# Altium schematic symbol library MOTION_BOARD_Library.SchLib: 108 symbols
Pins are listed as number, name and electrical type; pins without a type are passive.

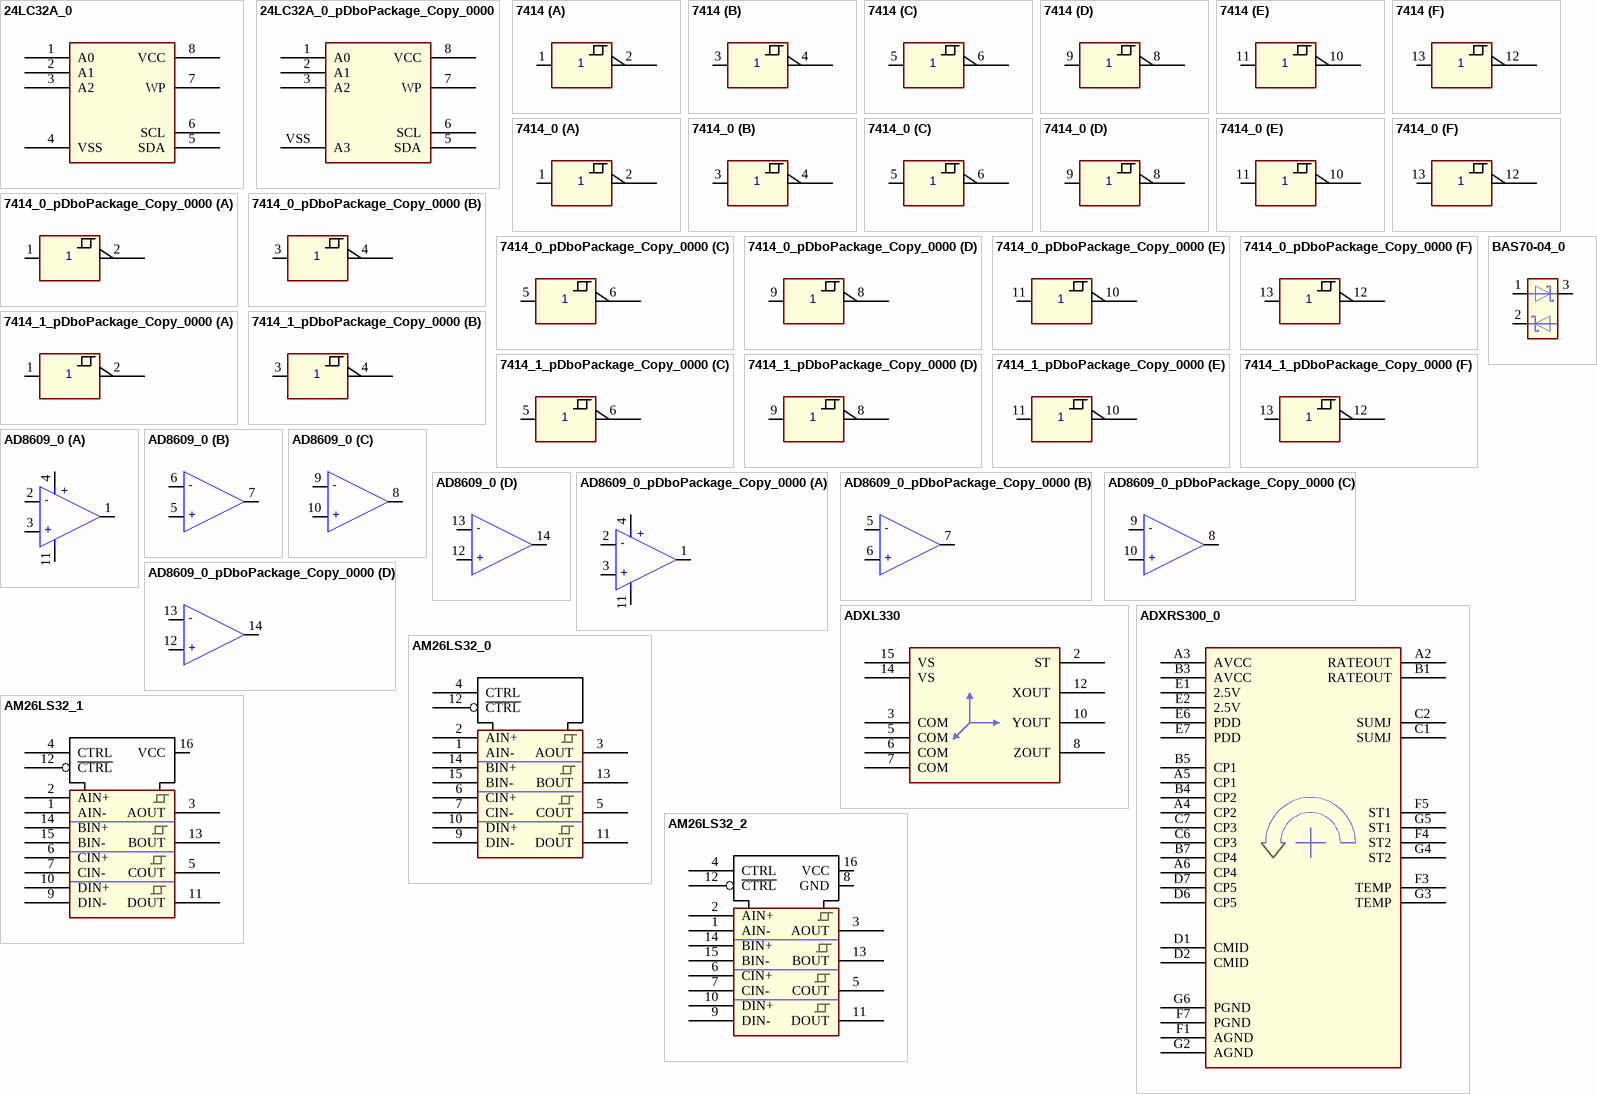
[diagram p0: symbols 24LC32A_0 to BAS70-04_0]

## 24LC32A_0
designator IC?
pins: 1 A0, 2 A1, 3 A2, 4 VSS, 5 SDA, 6 SCL, 7 WP, 8 VCC

## 24LC32A_0_pDboPackage_Copy_0000
designator IC?
pins: 1 A0, 2 A1, 3 A2, 5 SDA, 6 SCL, 7 WP, 8 VCC, VSS A3

## 7414
designator IC?
part A pins: 1 6A, 2 6Y, 7 GND (power) hidden to GND, 14 VCC (power) hidden to VCC
part B pins: 3 6A, 4 6Y, 7 GND (power) hidden to GND, 14 VCC (power) hidden to VCC
part C pins: 5 6A, 6 6Y, 7 GND (power) hidden to GND, 14 VCC (power) hidden to VCC
part D pins: 7 GND (power) hidden to GND, 8 6Y, 9 6A, 14 VCC (power) hidden to VCC
part E pins: 7 GND (power) hidden to GND, 10 6Y, 11 6A, 14 VCC (power) hidden to VCC
part F pins: 7 GND (power) hidden to GND, 12 6Y, 13 6A, 14 VCC (power) hidden to VCC

## 7414_0
designator IC?
part A pins: 1 6A, 2 6Y, 7 GND (power) hidden to GND, 14 VCC (power) hidden to VCC
part B pins: 3 6A, 4 6Y, 7 GND (power) hidden to GND, 14 VCC (power) hidden to VCC
part C pins: 5 6A, 6 6Y, 7 GND (power) hidden to GND, 14 VCC (power) hidden to VCC
part D pins: 7 GND (power) hidden to GND, 8 6Y, 9 6A, 14 VCC (power) hidden to VCC
part E pins: 7 GND (power) hidden to GND, 10 6Y, 11 6A, 14 VCC (power) hidden to VCC
part F pins: 7 GND (power) hidden to GND, 12 6Y, 13 6A, 14 VCC (power) hidden to VCC

## 7414_0_pDboPackage_Copy_0000
designator IC?
part A pins: 1 6A, 2 6Y, 7 GND (power) hidden to GND, 14 VCC (power) hidden to VCC
part B pins: 3 6A, 4 6Y, 7 GND (power) hidden to GND, 14 VCC (power) hidden to VCC
part C pins: 5 6A, 6 6Y, 7 GND (power) hidden to GND, 14 VCC (power) hidden to VCC
part D pins: 7 GND (power) hidden to GND, 8 6Y, 9 6A, 14 VCC (power) hidden to VCC
part E pins: 7 GND (power) hidden to GND, 10 6Y, 11 6A, 14 VCC (power) hidden to VCC
part F pins: 7 GND (power) hidden to GND, 12 6Y, 13 6A, 14 VCC (power) hidden to VCC

## 7414_1_pDboPackage_Copy_0000
designator IC?
part A pins: 1 6A, 2 6Y, 7 GND (power) hidden to GND, 14 VCC (power) hidden to VCC
part B pins: 3 6A, 4 6Y, 7 GND (power) hidden to GND, 14 VCC (power) hidden to VCC
part C pins: 5 6A, 6 6Y, 7 GND (power) hidden to GND, 14 VCC (power) hidden to VCC
part D pins: 7 GND (power) hidden to GND, 8 6Y, 9 6A, 14 VCC (power) hidden to VCC
part E pins: 7 GND (power) hidden to GND, 10 6Y, 11 6A, 14 VCC (power) hidden to VCC
part F pins: 7 GND (power) hidden to GND, 12 6Y, 13 6A, 14 VCC (power) hidden to VCC

## AD8609_0
designator IC?
part A pins: 1 OUT A, 2 -IN A, 3 +IN A, 4 V+, 11 V-
part B pins: 5 +IN B, 6 -IN B, 7 OUT B
part C pins: 8 OUT C, 9 -IN C, 10 +IN C
part D pins: 12 +IN D, 13 -IN D, 14 OUT D
part A text: +; -
part B text: -; +
part C text: -; +
part D text: -; +

## AD8609_0_pDboPackage_Copy_0000
designator IC?
part A pins: 1 OUT A, 2 -IN A, 3 +IN A, 4 V+, 11 V-
part B pins: 5 -IN B, 6 +IN B, 7 OUT B
part C pins: 8 OUT C, 9 -IN C, 10 +IN C
part D pins: 12 +IN D, 13 -IN D, 14 OUT D
part A text: +; -
part B text: -; +
part C text: -; +
part D text: -; +

## ADXL330
designator IC?
pins: 2 ST, 3 COM, 5 COM, 6 COM, 7 COM, 8 ZOUT, 10 YOUT, 12 XOUT, 14 VS, 15 VS

## ADXRS300_0
designator IC?
pins: A2 RATEOUT, A3 AVCC, A4 CP2, A5 CP1, A6 CP4, B1 RATEOUT, B3 AVCC, B4 CP2, B5 CP1, B7 CP4, C1 SUMJ, C2 SUMJ, C6 CP3, C7 CP3, D1 CMID, D2 CMID, D6 CP5, D7 CP5, E1 2.5V, E2 2.5V, E6 PDD, E7 PDD, F1 AGND, F3 TEMP, F4 ST2, F5 ST1, F7 PGND, G2 AGND, G3 TEMP, G4 ST2, G5 ST1, G6 PGND

## AM26LS32_0
designator IC?
pins: 1 AIN-, 2 AIN+, 3 AOUT, 4 CTRL, 5 COUT, 6 CIN+, 7 CIN-, 8 GND (power) hidden to GND, 9 DIN-, 10 DIN+, 11 DOUT, 12 ~{CTRL}, 13 BOUT, 14 BIN+, 15 BIN-

## AM26LS32_1
designator IC?
pins: 1 AIN-, 2 AIN+, 3 AOUT, 4 CTRL, 5 COUT, 6 CIN+, 7 CIN-, 8 GND (power) hidden to GND, 9 DIN-, 10 DIN+, 11 DOUT, 12 ~{CTRL}, 13 BOUT, 14 BIN+, 15 BIN-, 16 VCC

## AM26LS32_2
designator IC?
pins: 1 AIN-, 2 AIN+, 3 AOUT, 4 CTRL, 5 COUT, 6 CIN+, 7 CIN-, 8 GND (power), 9 DIN-, 10 DIN+, 11 DOUT, 12 ~{CTRL}, 13 BOUT, 14 BIN+, 15 BIN-, 16 VCC

## BAS70-04_0
designator D?
pins: 1 a, 2 k, 3 k

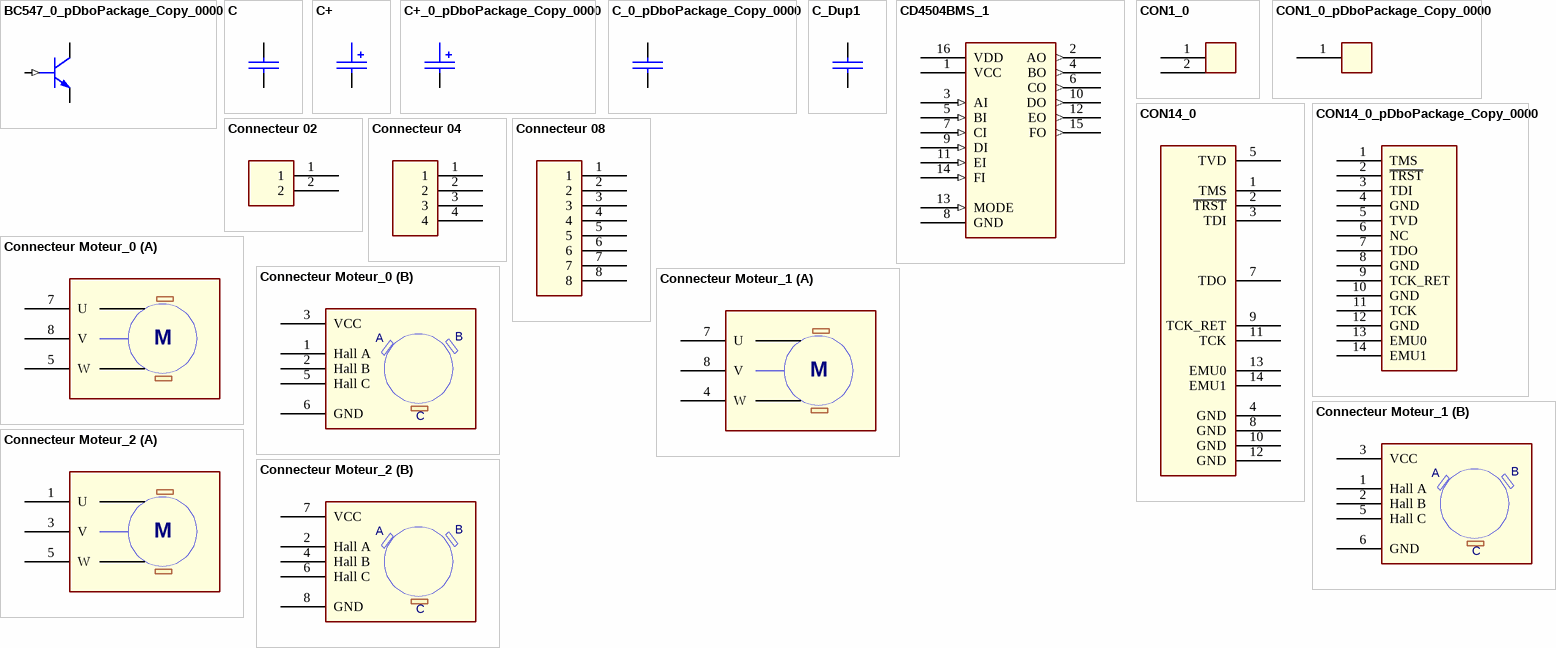
[diagram p1: symbols BC547_0_pDboPackage_Copy_0000 to Connecteur Moteur_2]

## BC547_0_pDboPackage_Copy_0000
designator Q?
pins: 1 COLLECTOR, 2 BASE (in), 3 EMITTER

## C
designator C?
footprint SM/C_0805
pins: 1, 2

## C+
designator C?
footprint SM/C_0805
pins: 1, 2

## C+_0_pDboPackage_Copy_0000
designator C?
footprint SM/C_0805
pins: 1, 2

## C_0_pDboPackage_Copy_0000
designator C?
footprint SM/C_0805
pins: 1, 2

## C_Dup1
designator C?
footprint SM/C_0805
pins: 1, 2

## CD4504BMS_1
designator U?
pins: 1 VCC (power), 2 AO (out), 3 AI (in), 4 BO (out), 5 BI (in), 6 CO (out), 7 CI (in), 8 GND (power), 9 DI (in), 10 DO (out), 11 EI (in), 12 EO (out), 13 MODE (in), 14 FI (in), 15 FO (out), 16 VDD (power)

## CON1_0
designator J?
pins: 1, 2

## CON1_0_pDboPackage_Copy_0000
designator J?
pins: 1

## CON14_0
designator J?
pins: 1 TMS, 2 ~{TRST}, 3 TDI, 4 GND, 5 TVD, 7 TDO, 8 GND, 9 TCK_RET, 10 GND, 11 TCK, 12 GND, 13 EMU0, 14 EMU1

## CON14_0_pDboPackage_Copy_0000
designator J?
pins: 1 TMS, 2 ~{TRST}, 3 TDI, 4 GND, 5 TVD, 6 NC, 7 TDO, 8 GND, 9 TCK_RET, 10 GND, 11 TCK, 12 GND, 13 EMU0, 14 EMU1

## Connecteur 02
designator X?
pins: 1, 2

## Connecteur 04
designator X?
pins: 1, 2, 3, 4

## Connecteur 08
designator X?
pins: 1, 2, 3, 4, 5, 6, 7, 8

## Connecteur Moteur_0
designator X?
footprint Molex8
part A pins: 5 W, 7 U, 8 V
part B pins: 1 Hall A, 2 Hall B, 3 VCC, 5 Hall C, 6 GND
part A text: M
part B text: A; B; C

## Connecteur Moteur_1
designator X?
footprint Molex8
part A pins: 4 W, 7 U, 8 V
part B pins: 1 Hall A, 2 Hall B, 3 VCC, 5 Hall C, 6 GND
part A text: M
part B text: A; B; C

## Connecteur Moteur_2
designator X?
footprint Molex8
part A pins: 1 U, 3 V, 5 W
part B pins: 2 Hall A, 4 Hall B, 6 Hall C, 7 VCC, 8 GND
part A text: M
part B text: A; B; C

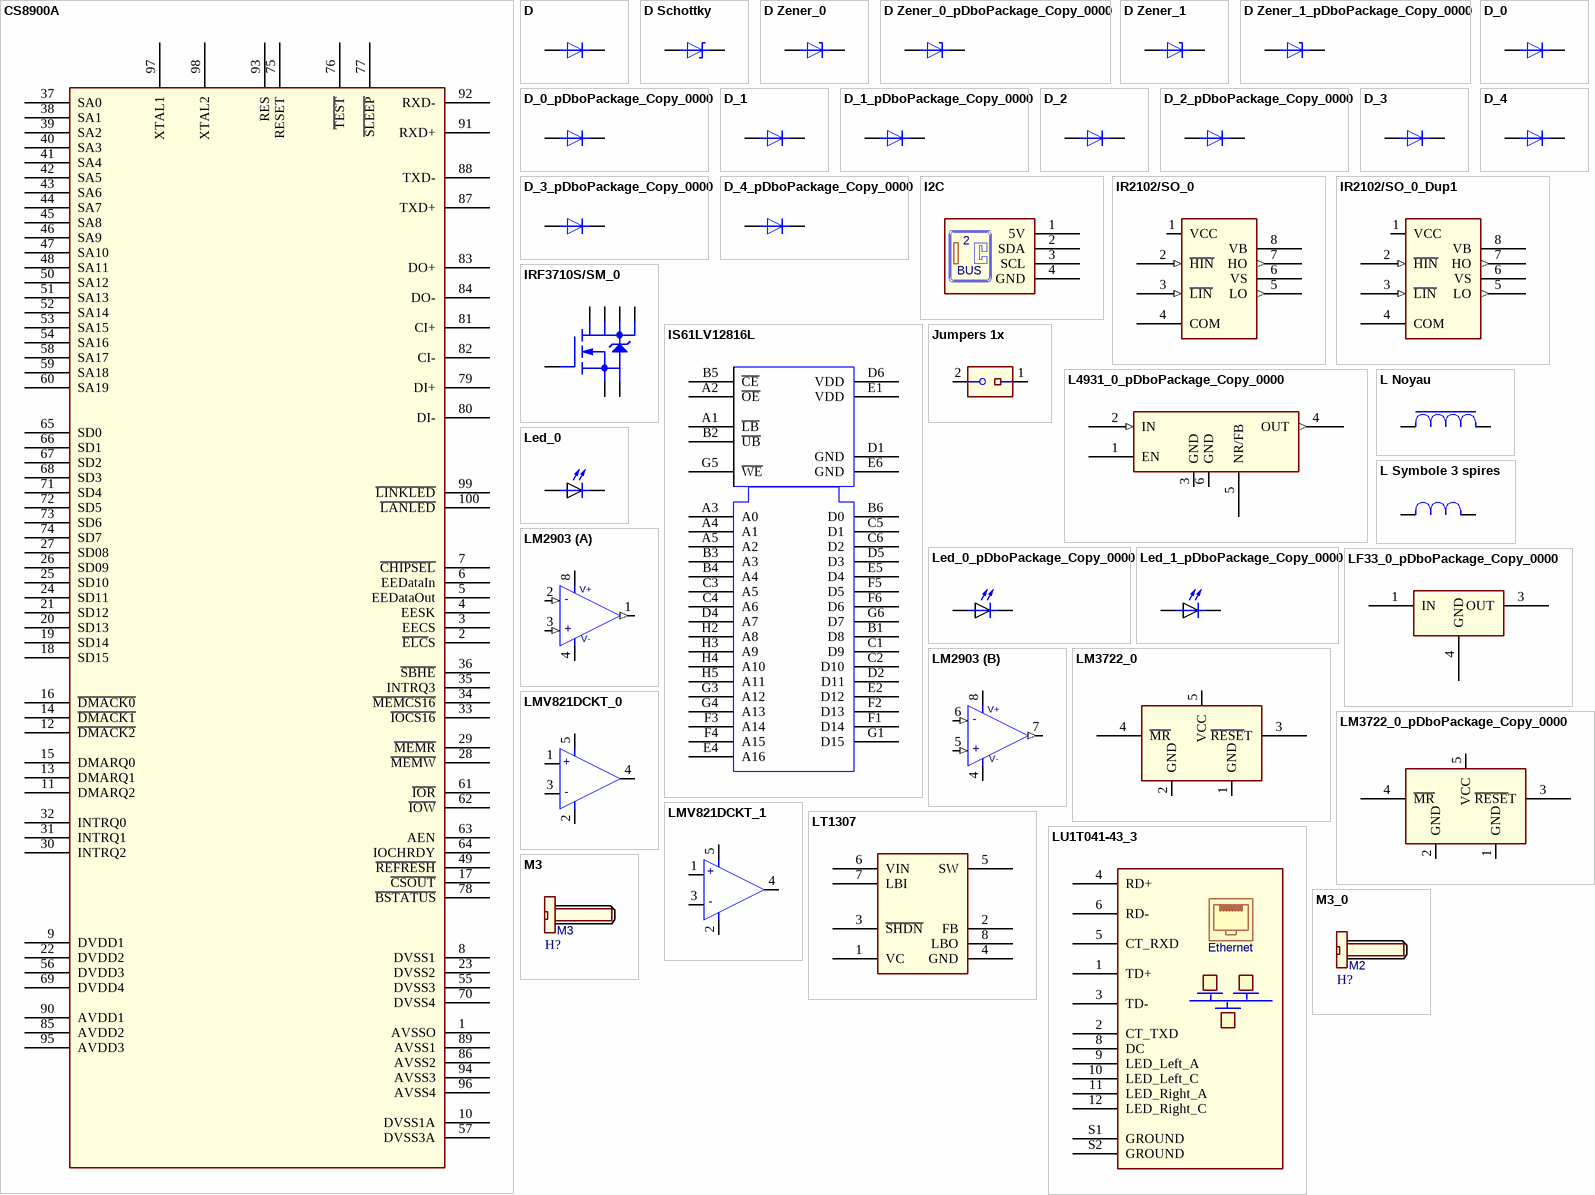
[diagram p2: symbols CS8900A to M3_0]

## CS8900A
designator IC?
pins: 1 AVSSO, 2 ~{ELC}S, 3 EECS, 4 EESK, 5 EEDataOut, 6 EEDataIn, 7 ~{CHIPSEL}, 8 DVSS1, 9 DVDD1, 10 DVSS1A, 11 DMARQ2, 12 ~{DMACK2}, 13 DMARQ1, 14 ~{DMACK1}, 15 DMARQ0, 16 ~{DMACK0}, 17 ~{CSOUT}, 18 SD15, 19 SD14, 20 SD13, 21 SD12, 22 DVDD2, 23 DVSS2, 24 SD11, 25 SD10, 26 SD09, 27 SD08, 28 ~{MEMW}, 29 ~{MEMR}, 30 INTRQ2, 31 INTRQ1, 32 INTRQ0, 33 ~{IOCS16}, 34 ~{MEMCS16}, 35 INTRQ3, 36 ~{SBHE}, 37 SA0, 38 SA1, 39 SA2, 40 SA3, 41 SA4, 42 SA5, 43 SA6, 44 SA7, 45 SA8, 46 SA9, 47 SA10, 48 SA11, 49 ~{REFRESH}, 50 SA12, 51 SA13, 52 SA14, 53 SA15, 54 SA16, 55 DVSS3, 56 DVDD3, 57 DVSS3A, 58 SA17, 59 SA18, 60 SA19, 61 ~{IOR}, 62 ~{IOW}, 63 AEN, 64 IOCHRDY, 65 SD0, 66 SD1, 67 SD2, 68 SD3, 69 DVDD4, 70 DVSS4, 71 SD4, 72 SD5, 73 SD6, 74 SD7, 75 RESET, 76 ~{TEST}, 77 ~{SLEEP}, 78 ~{BSTATUS}, 79 DI+, 80 DI-, 81 CI+, 82 CI-, 83 DO+, 84 DO-, 85 AVDD2, 86 AVSS2, 87 TXD+, 88 TXD-, 89 AVSS1, 90 AVDD1, 91 RXD+, 92 RXD-, 93 RES, 94 AVSS3, 95 AVDD3, 96 AVSS4, 97 XTAL1, 98 XTAL2, 99 ~{LINKLED}, 100 ~{LANLED}

## D
designator D?
pins: 1 a, 2 k

## D Schottky
designator D?
pins: 1 a, 2 k

## D Zener_0
designator D?
pins: 1, 2

## D Zener_0_pDboPackage_Copy_0000
designator D?
pins: 1 a, 2 k

## D Zener_1
designator D?
pins: 1 a, 3 k

## D Zener_1_pDboPackage_Copy_0000
designator D?
pins: 1 a, 2 k

## D_0
designator D?
pins: 1 a, 3 k

## D_0_pDboPackage_Copy_0000
designator D?
pins: 1 a, 2 k

## D_1
designator D?
pins: 1 a, 3 k

## D_1_pDboPackage_Copy_0000
designator D?
pins: 1 a, 2 k

## D_2
designator D?
pins: 1 a, 3 k

## D_2_pDboPackage_Copy_0000
designator D?
pins: 1 a, 2 k

## D_3
designator D?
pins: 1 a, 3 k

## D_3_pDboPackage_Copy_0000
designator D?
pins: 1 a, 3 k

## D_4
designator D?
pins: 1 a, 3 k

## D_4_pDboPackage_Copy_0000
designator D?
pins: 1 a, 3 k

## I2C
designator X?
pins: 1 5V, 2 SDA, 3 SCL, 4 GND
text: BUS

## IR2102/SO_0
designator IC?
pins: 1 VCC (power), 2 ~{HIN} (in), 3 ~{LIN} (in), 4 COM (power), 5 LO (out), 6 VS, 7 HO (out), 8 VB (power)

## IR2102/SO_0_Dup1
designator U?
pins: 1 VCC (power), 2 ~{HIN} (in), 3 ~{LIN} (in), 4 COM (power), 5 LO (out), 6 VS, 7 HO (out), 8 VB (power)

## IRF3710S/SM_0
designator Q?
pins: D1 D, D2 D, D3 D, D4 D, G, S1 S, S2 S

## IS61LV12816L
designator IC?
pins: A1 ~{LB}, A2 ~{OE}, A3 A0, A4 A1, A5 A2, B1 D8, B2 ~{UB}, B3 A3, B4 A4, B5 ~{CE}, B6 D0, C1 D9, C2 D10, C3 A5, C4 A6, C5 D1, C6 D2, D1 GND, D2 D11, D4 A7, D5 D3, D6 VDD, E1 VDD, E2 D12, E4 A16, E5 D4, E6 GND, F1 D14, F2 D13, F3 A14, F4 A15, F5 D5, F6 D6, G1 D15, G3 A12, G4 A13, G5 ~{WE}, G6 D7, H2 A8, H3 A9, H4 A10, H5 A11

## Jumpers 1x
designator JP?
footprint JP2
pins: 1, 2

## L4931_0_pDboPackage_Copy_0000
designator U?
pins: 1 EN, 2 IN (in), 3 GND (power), 4 OUT (out), 5 NR/FB, 6 GND (power)

## L Noyau
designator L?
pins: 1, 2

## L Symbole 3 spires
designator L?
pins: 1, 2

## Led_0
designator D?
footprint LED 5
pins: 1, 2

## Led_0_pDboPackage_Copy_0000
designator D?
footprint LED 5
pins: 1, 2

## Led_1_pDboPackage_Copy_0000
designator D?
footprint LED 5
pins: 1, 2

## LF33_0_pDboPackage_Copy_0000
designator IC?
pins: 1 IN, 3 OUT, 4 GND

## LM2903
designator IC?
part A pins: 1 out (out), 2 IN- (in), 3 IN+ (in), 4 GND (power), 8 VCC (power)
part B pins: 4 GND (power), 5 IN+ (in), 6 IN- (in), 7 out (out), 8 VCC (power)
part A text: V+; -; +; V-
part B text: V+; -; +; V-

## LM3722_0
designator IC?
pins: 1 GND, 2 GND, 3 ~{RESE}T, 4 ~{MR}, 5 VCC (power)

## LM3722_0_pDboPackage_Copy_0000
designator IC?
pins: 1 GND (power), 2 GND (power), 3 ~{RESE}T, 4 ~{MR}, 5 VCC (power)

## LMV821DCKT_0
designator IC?
pins: 1 IN+, 2 GND, 3 IN-, 4 out, 5 VCC
text: +; -

## LMV821DCKT_1
designator IC?
pins: 1 IN+, 2 GND, 3 IN-, 4 out, 5 VCC
text: +; -

## LT1307
designator IC?
pins: 1 VC, 2 FB, 3 ~{SHDN}, 4 GND, 5 SW, 6 VIN, 7 LBI, 8 LBO

## LU1T041-43_3
designator M?
pins: 1 TD+, 2 CT_TXD, 3 TD-, 4 RD+, 5 CT_RXD, 6 RD-, 8 DC, 9 LED_Left_A, 10 LED_Left_C, 11 LED_Right_A, 12 LED_Right_C, S1 GROUND, S2 GROUND
text: Ethernet

## M3
designator H?  (value not drawn)
footprint M3
pins: 1 EARTH

## M3_0
designator H?  (value not drawn)
footprint M3
pins: 1 EARTH
text: M2

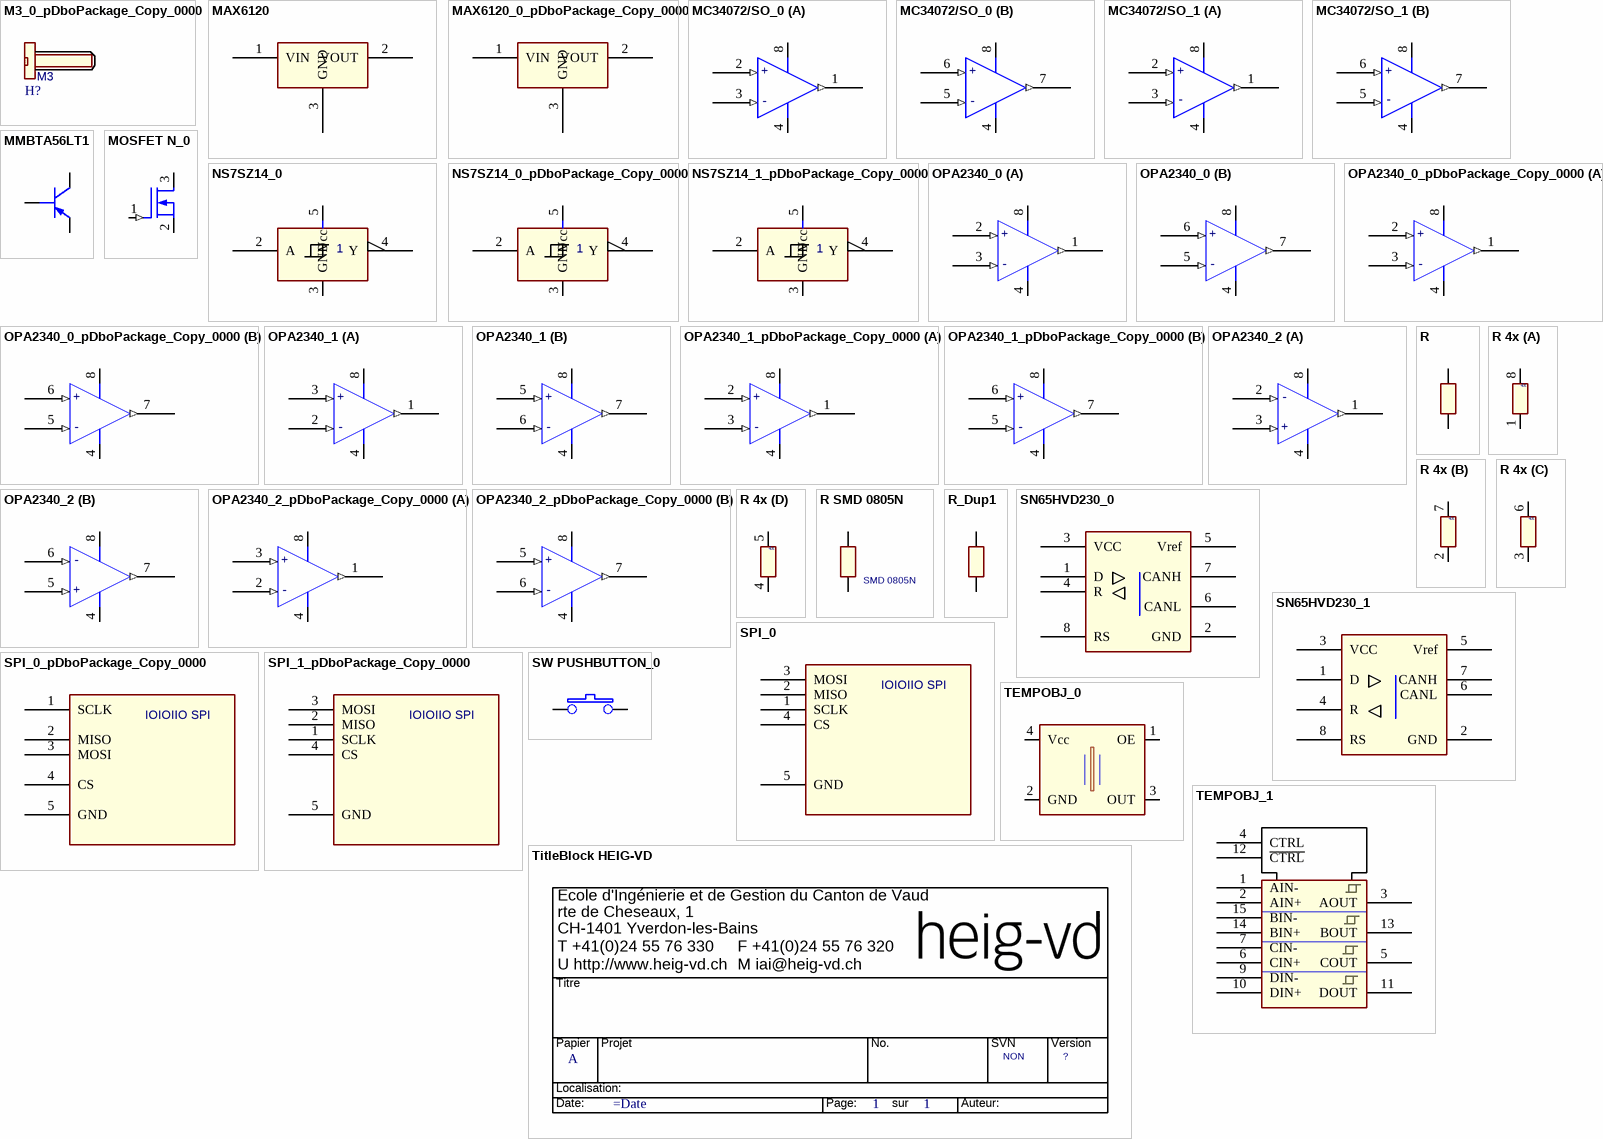
[diagram p3: symbols M3_0_pDboPackage_Copy_0000 to TitleBlock HEIG-VD]

## M3_0_pDboPackage_Copy_0000
designator H?  (value not drawn)
footprint M3
text: M3

## MAX6120
designator IC?
footprint SOT23_123
pins: 1 VIN, 2 VOUT, 3 GND

## MAX6120_0_pDboPackage_Copy_0000
designator IC?
footprint SOT23_123
pins: 1 VIN, 2 VOUT, 3 GND

## MC34072/SO_0
designator U?
part A pins: 1 OUT (out), 2 -IN (in), 3 +IN (in), 4 GND (power), 8 VCC (power)
part B pins: 4 GND (power), 5 +IN (in), 6 -IN (in), 7 OUT (out), 8 VCC (power)
part A text: +; -
part B text: +; -

## MC34072/SO_1
designator U?
part A pins: 1 OUT (out), 2 -IN (in), 3 +IN (in), 4 GND (power), 8 VCC (power)
part B pins: 4 GND (power), 5 +IN (in), 6 -IN (in), 7 OUT (out), 8 VCC (power)
part A text: +; -
part B text: +; -

## MMBTA56LT1
designator T?
pins: 1 B, 2 E, 3 C

## MOSFET N_0
designator Q?
pins: 1 GATE (in), 2 SOURCE, 3 DRAIN

## NS7SZ14_0
designator IC?
footprint SOT-23-5
pins: 2 A, 3 GND, 4 Y, 5 Vcc (power)
text: 1

## NS7SZ14_0_pDboPackage_Copy_0000
designator IC?
footprint SOT-23-5
pins: 2 A, 3 GND (power), 4 Y, 5 Vcc (power)
text: 1

## NS7SZ14_1_pDboPackage_Copy_0000
designator IC?
footprint SOT-23-5
pins: 2 A, 3 GND, 4 Y, 5 Vcc (power)
text: 1

## OPA2340_0
designator U?
part A pins: 1 OUT (out), 2 -IN (in), 3 +IN (in), 4 -VCC (power), 8 +VCC (power)
part B pins: 4 -VCC (power), 5 +IN (in), 6 -IN (in), 7 OUT (out), 8 +VCC (power)
part A text: +; -
part B text: +; -

## OPA2340_0_pDboPackage_Copy_0000
designator U?
part A pins: 1 OUT (out), 2 -IN (in), 3 +IN (in), 4 -VCC (power), 8 +VCC (power)
part B pins: 4 -VCC (power), 5 +IN (in), 6 -IN (in), 7 OUT (out), 8 +VCC (power)
part A text: +; -
part B text: +; -

## OPA2340_1
designator U?
part A pins: 1 OUT (out), 2 -IN (in), 3 +IN (in), 4 -VCC (power), 8 +VCC (power)
part B pins: 4 -VCC (power), 5 +IN (in), 6 -IN (in), 7 OUT (out), 8 +VCC (power)
part A text: +; -
part B text: +; -

## OPA2340_1_pDboPackage_Copy_0000
designator U?
part A pins: 1 OUT (out), 2 -IN (in), 3 +IN (in), 4 -VCC (power), 8 +VCC (power)
part B pins: 4 -VCC (power), 5 +IN (in), 6 -IN (in), 7 OUT (out), 8 +VCC (power)
part A text: +; -
part B text: +; -

## OPA2340_2
designator U?
part A pins: 1 OUT (out), 2 -IN (in), 3 +IN (in), 4 -VCC (power), 8 +VCC (power)
part B pins: 4 -VCC (power), 5 +IN (in), 6 -IN (in), 7 OUT (out), 8 +VCC (power)
part A text: -; +
part B text: -; +

## OPA2340_2_pDboPackage_Copy_0000
designator U?
part A pins: 1 OUT (out), 2 -IN (in), 3 +IN (in), 4 -VCC (power), 8 +VCC (power)
part B pins: 4 -VCC (power), 5 +IN (in), 6 -IN (in), 7 OUT (out), 8 +VCC (power)
part A text: +; -
part B text: +; -

## R
designator R?
footprint R400
pins: 1, 2

## R 4x
designator R?
part A pins: 1 A, 8 B
part B pins: 2 A, 7 B
part C pins: 3 A, 6 B
part D pins: 4 A, 5 B
part A text: 4x
part B text: 4x
part C text: 4x
part D text: 4x

## R SMD 0805N
designator R?  Package: SMD 0805N
footprint SM/R_0805
pins: 1, 2

## R_Dup1
designator R?
footprint R400
pins: 1, 2

## SN65HVD230_0
designator IC?
pins: 1 D, 2 GND, 3 VCC, 4 R, 5 Vref, 6 CANL, 7 CANH, 8 RS

## SN65HVD230_1
designator IC?
pins: 1 D, 2 GND, 3 VCC, 4 R, 5 Vref, 6 CANL, 7 CANH, 8 RS

## SPI_0
designator M?
pins: 1 SCLK, 2 MISO, 3 MOSI, 4 CS, 5 GND
text: IOIOIIO SPI

## SPI_0_pDboPackage_Copy_0000
designator M?
pins: 1 SCLK, 2 MISO, 3 MOSI, 4 CS, 5 GND
text: IOIOIIO SPI

## SPI_1_pDboPackage_Copy_0000
designator M?
pins: 1 SCLK, 2 MISO, 3 MOSI, 4 CS, 5 GND
text: IOIOIIO SPI

## SW PUSHBUTTON_0
designator SW?
pins: 1, 2

## TEMPOBJ_0
designator IC?
pins: 1 OE, 2 GND, 3 OUT, 4 Vcc

## TEMPOBJ_1
designator IC?
pins: 1 AIN-, 2 AIN+, 3 AOUT, 4 CTRL, 5 COUT, 6 CIN+, 7 CIN-, 8 GND (power) hidden to GND, 9 DIN-, 10 DIN+, 11 DOUT, 12 ~{CTRL}, 13 BOUT, 14 BIN+, 15 BIN-

## TitleBlock HEIG-VD
designator *  SVN: NON  Page Count: 1  Page Size: A  (hidden comment: *)  (graphical)
OrgName: Institut d'automatisation Industrielle; Page Number: 1; RevCode: ?; Page Create Date: March  8, 1995; Page Modify Date: =Date
text: Ecole d'Ingénierie et de Gestion du Canton de Vaud; rte de Cheseaux, 1; CH-1401 Yverdon-les-Bains; T +41(0)24 55 76 330; F +41(0)24 55 76 320; U http://www.heig-vd.ch; M iai@heig-vd.ch; Titre; Papier; Projet; No.; SVN; Version; Localisation:; Date:; Page:; sur; Auteur:

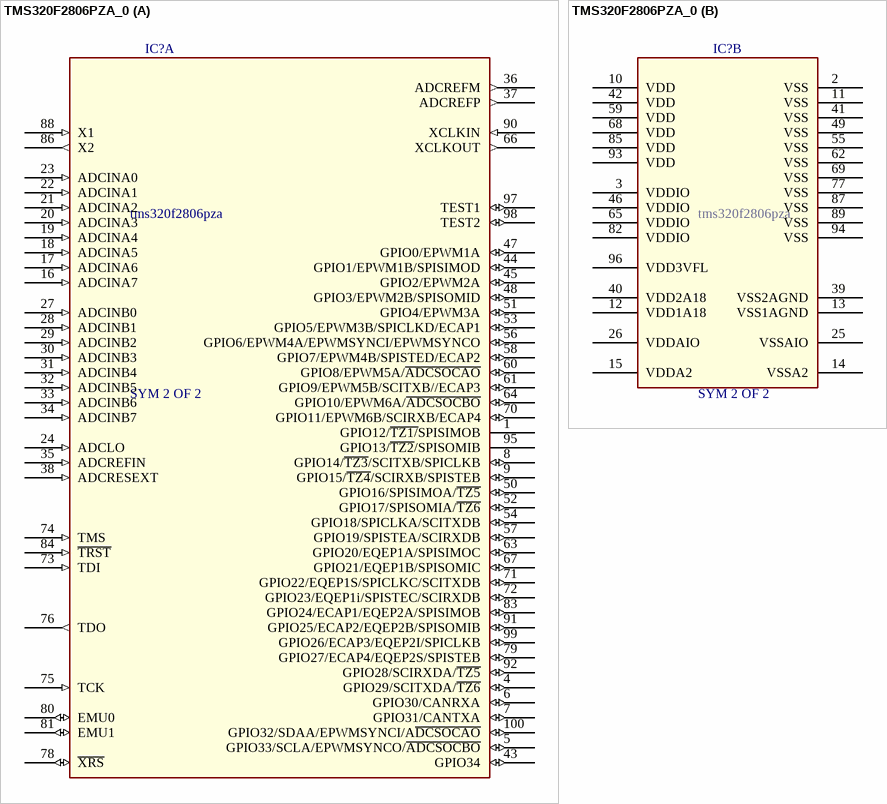
[diagram p4: symbol TMS320F2806PZA_0]

## TMS320F2806PZA_0
designator IC?  SymName: tms320f2806pza  SlotXofY: SYM 2 OF 2  (hidden comment: *)
RefLocation: ?; BoardLocation: ?; Instance: ?
part A pins: 1 GPIO12/~{TZ1/}SPISIMOB, 4 GPIO29/SCITXDA/~{TZ6} (io), 5 GPIO33/SCLA/EPWMSYNCO/~{ADCSOCBO} (io), 6 GPIO30/CANRXA (io), 7 GPIO31/CANTXA (io), 8 GPIO14/~{TZ3}/SCITXB/SPICLKB (io), 9 GPIO15/~{TZ4}/SCIRXB/SPISTEB (io), 16 ADCINA7 (in), 17 ADCINA6 (in), 18 ADCINA5 (in), 19 ADCINA4 (in), 20 ADCINA3 (in), 21 ADCINA2 (in), 22 ADCINA1 (in), 23 ADCINA0 (in), 24 ADCLO (in), 27 ADCINB0 (in), 28 ADCINB1 (in), 29 ADCINB2 (in), 30 ADCINB3 (in), 31 ADCINB4 (in), 32 ADCINB5 (in), 33 ADCINB6 (in), 34 ADCINB7 (in), 35 ADCREFIN (in), 36 ADCREFM (out), 37 ADCREFP (out), 38 ADCRESEXT (in), 43 GPIO34 (io), 44 GPIO1/EPWM1B/SPISIMOD (io), 45 GPIO2/EPWM2A (io), 47 GPIO0/EPWM1A (io), 48 GPIO3/EPWM2B/SPISOMID (io), 50 GPIO16/SPISIMOA/~{TZ5} (io), 51 GPIO4/EPWM3A (io), 52 GPIO17/SPISOMIA/~{TZ6} (io), 53 GPIO5/EPWM3B/SPICLKD/ECAP1 (io), 54 GPIO18/SPICLKA/SCITXDB (io), 56 GPIO6/EPWM4A/EPWMSYNCI/EPWMSYNCO (io), 57 GPIO19/SPISTEA/SCIRXDB (io), 58 GPIO7/EPWM4B/SPISTED/ECAP2 (io), 60 GPIO8/EPWM5A/~{ADCSOCAO} (io), 61 GPIO9/EPWM5B/SCITXB//ECAP3 (io), 63 GPIO20/EQEP1A/SPISIMOC (io), 64 GPIO10/EPWM6A/~{ADCSOCBO} (io), 66 XCLKOUT (out), 67 GPIO21/EQEP1B/SPISOMIC (io), 70 GPIO11/EPWM6B/SCIRXB/ECAP4 (io), 71 GPIO22/EQEP1S/SPICLKC/SCITXDB (io), 72 GPIO23/EQEP1i/SPISTEC/SCIRXDB (io), 73 TDI (in), 74 TMS (in), 75 TCK (in), 76 TDO (out), 78 ~{XRS} (io), 79 GPIO27/ECAP4/EQEP2S/SPISTEB (io), 80 EMU0 (io), 81 EMU1 (io), 83 GPIO24/ECAP1/EQEP2A/SPISIMOB (io), 84 ~{TRST} (in), 86 X2 (out), 88 X1 (in), 90 XCLKIN (in), 91 GPIO25/ECAP2/EQEP2B/SPISOMIB (io), 92 GPIO28/SCIRXDA/~{TZ5} (io), 95 GPIO13/~{TZ2}/SPISOMIB, 97 TEST1 (io), 98 TEST2 (io), 99 GPIO26/ECAP3/EQEP2I/SPICLKB (io), 100 GPIO32/SDAA/EPWMSYNCI/A~{DCSOCAO} (io)
part B pins: 2 VSS (power), 3 VDDIO (power), 10 VDD (power), 11 VSS (power), 12 VDD1A18 (power), 13 VSS1AGND (power), 14 VSSA2 (power), 15 VDDA2 (power), 25 VSSAIO (power), 26 VDDAIO (power), 39 VSS2AGND (power), 40 VDD2A18 (power), 41 VSS (power), 42 VDD (power), 46 VDDIO (power), 49 VSS (power), 55 VSS (power), 59 VDD (power), 62 VSS (power), 65 VDDIO (power), 68 VDD (power), 69 VSS (power), 77 VSS (power), 82 VDDIO (power), 85 VDD (power), 87 VSS (power), 89 VSS (power), 93 VDD (power), 94 VSS (power), 96 VDD3VFL (power)

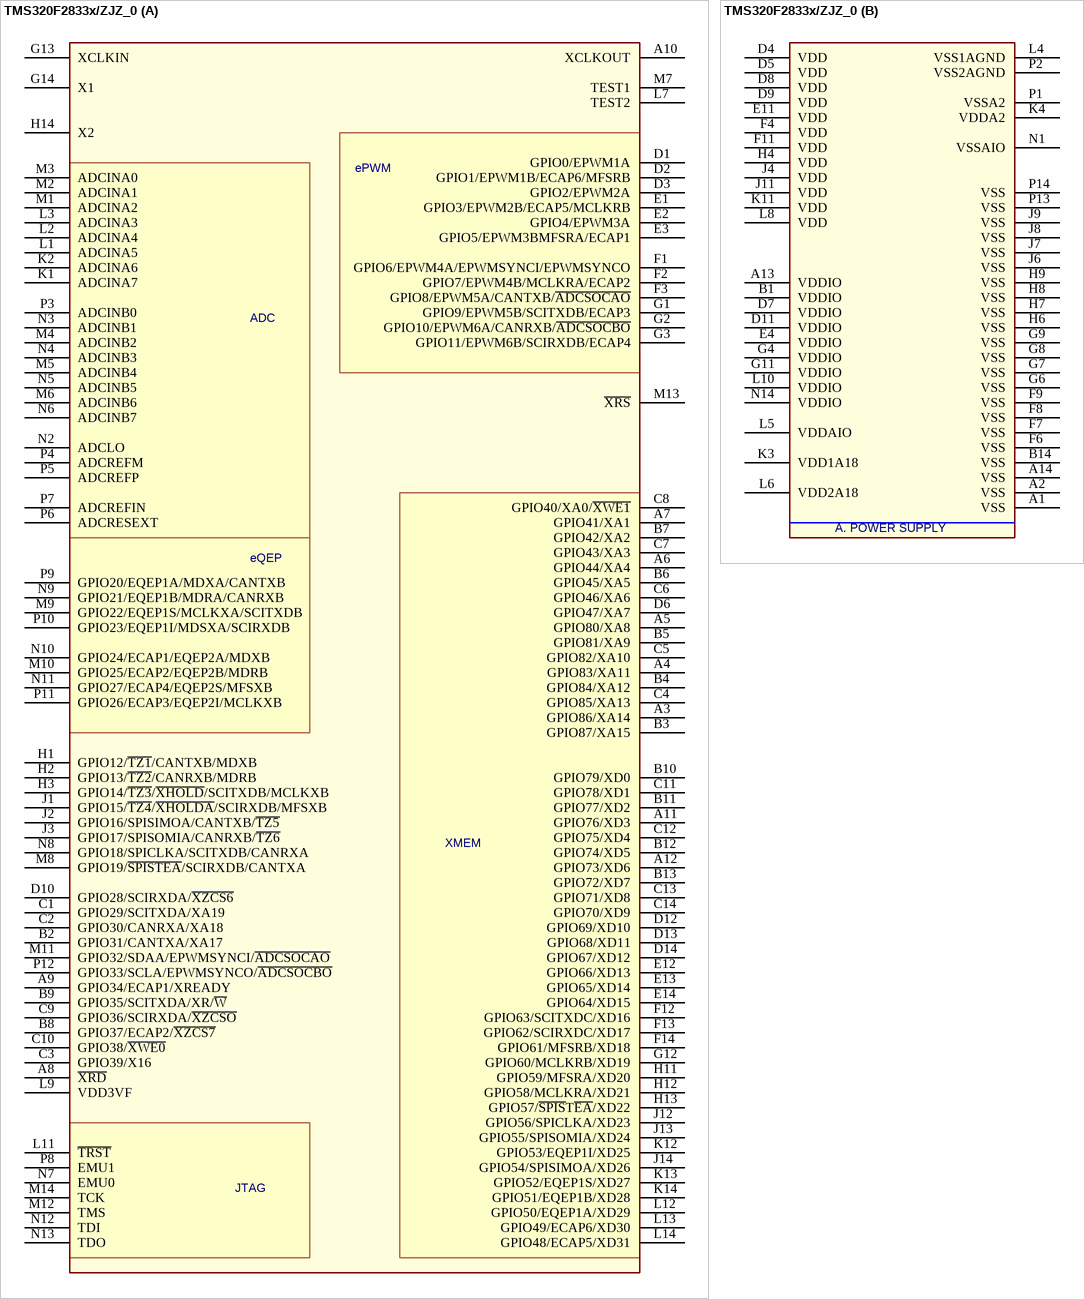
[diagram p5: symbol TMS320F2833x/ZJZ_0]

## TMS320F2833x/ZJZ_0
designator IC?
part A pins: A3 GPIO86/XA14, A4 GPIO83/XA11, A5 GPIO80/XA8, A6 GPIO44/XA4, A7 GPIO41/XA1, A8 ~{XRD}, A9 GPIO34/ECAP1/XREADY, A10 XCLKOUT, A11 GPIO76/XD3, A12 GPIO73/XD6, B2 GPIO31/CANTXA/XA17, B3 GPIO87/XA15, B4 GPIO84/XA12, B5 GPIO81/XA9, B6 GPIO45/XA5, B7 GPIO42/XA2, B8 GPIO37/ECAP2/~{XZCS7}, B9 GPIO35/SCITXDA/XR/~{W}, B10 GPIO79/XD0, B11 GPIO77/XD2, B12 GPIO74/XD5, B13 GPIO72/XD7, C1 GPIO29/SCITXDA/XA19, C2 GPIO30/CANRXA/XA18, C3 GPIO39/X16, C4 GPIO85/XA13, C5 GPIO82/XA10, C6 GPIO46/XA6, C7 GPIO43/XA3, C8 GPIO40/XA0/~{XWE1}, C9 GPIO36/SCIRXDA/~{XZCSO}, C10 GPIO38/~{XWE0}, C11 GPIO78/XD1, C12 GPIO75/XD4, C13 GPIO71/XD8, C14 GPIO70/XD9, D1 GPIO0/EPWM1A, D2 GPIO1/EPWM1B/ECAP6/MFSRB, D3 GPIO2/EPWM2A, D6 GPIO47/XA7, D10 GPIO28/SCIRXDA/~{XZCS6}, D12 GPIO69/XD10, D13 GPIO68/XD11, D14 GPIO67/XD12, E1 GPIO3/EPWM2B/ECAP5/MCLKRB, E2 GPIO4/EPWM3A, E3 GPIO5/EPWM3BMFSRA/ECAP1, E12 GPIO66/XD13, E13 GPIO65/XD14, E14 GPIO64/XD15, F1 GPIO6/EPWM4A/EPWMSYNCI/EPWMSYNCO, F2 GPIO7/EPWM4B/MCLKRA/ECAP2, F3 GPIO8/EPWM5A/CANTXB/~{ADCSOCAO}, F12 GPIO63/SCITXDC/XD16, F13 GPIO62/SCIRXDC/XD17, F14 GPIO61/MFSRB/XD18, G1 GPIO9/EPWM5B/SCITXDB/ECAP3, G2 GPIO10/EPWM6A/CANRXB/~{ADCSOCBO}, G3 GPIO11/EPWM6B/SCIRXDB/ECAP4, G12 GPIO60/MCLKRB/XD19, G13 XCLKIN, G14 X1, H1 GPIO12/~{TZ1}/CANTXB/MDXB, H2 GPIO13/~{TZ2}/CANRXB/MDRB, H3 GPIO14/~{TZ3}/~{XHOLD}/SCITXDB/MCLKXB, H11 GPIO59/MFSRA/XD20, H12 GPIO58/MCLKRA/XD21, H13 GPIO57/~{SPIS}T~{EA}/XD22, H14 X2, J1 GPIO15/~{TZ4}/~{XHOLDA}/SCIRXDB/MFSXB, J2 GPIO16/SPISIMOA/CANTXB/~{TZ5}, J3 GPIO17/SPISOMIA/CANRXB/~{TZ6}, J12 GPIO56/SPICLKA/XD23, J13 GPIO55/SPISOMIA/XD24, J14 GPIO54/SPISIMOA/XD26, K1 ADCINA7, K2 ADCINA6, K12 GPIO53/EQEP1I/XD25, K13 GPIO52/EQEP1S/XD27, K14 GPIO51/EQEP1B/XD28, L1 ADCINA5, L2 ADCINA4, L3 ADCINA3, L7 TEST2, L9 VDD3VF, L11 ~{TRST}, L12 GPIO50/EQEP1A/XD29, L13 GPIO49/ECAP6/XD30, L14 GPIO48/ECAP5/XD31, M1 ADCINA2, M2 ADCINA1, M3 ADCINA0, M4 ADCINB2, M5 ADCINB4, M6 ADCINB6, M7 TEST1, M8 GPIO19/~{SPISTEA}/SCIRXDB/CANTXA, M9 GPIO22/EQEP1S/MCLKXA/SCITXDB, M10 GPIO25/ECAP2/EQEP2B/MDRB, M11 GPIO32/SDAA/EPWMSYNCI/~{ADCSOCAO}, M12 TMS, M13 ~{XRS}, M14 TCK, N2 ADCLO, N3 ADCINB1, N4 ADCINB3, N5 ADCINB5, N6 ADCINB7, N7 EMU0, N8 GPIO18/SPICLKA/SCITXDB/CANRXA, N9 GPIO21/EQEP1B/MDRA/CANRXB, N10 GPIO24/ECAP1/EQEP2A/MDXB, N11 GPIO27/ECAP4/EQEP2S/MFSXB, N12 TDI, N13 TDO, P3 ADCINB0, P4 ADCREFM, P5 ADCREFP, P6 ADCRESEXT, P7 ADCREFIN, P8 EMU1, P9 GPIO20/EQEP1A/MDXA/CANTXB, P10 GPIO23/EQEP1I/MDSXA/SCIRXDB, P11 GPIO26/ECAP3/EQEP2I/MCLKXB, P12 GPIO33/SCLA/EPWMSYNCO/~{ADCSOCBO}
part B pins: A1 VSS, A2 VSS, A13 VDDIO, A14 VSS, B1 VDDIO, B14 VSS, D4 VDD, D5 VDD, D7 VDDIO, D8 VDD, D9 VDD, D11 VDDIO, E4 VDDIO, E11 VDD, F4 VDD, F6 VSS, F7 VSS, F8 VSS, F9 VSS, F11 VDD, G4 VDDIO, G6 VSS, G7 VSS, G8 VSS, G9 VSS, G11 VDDIO, H4 VDD, H6 VSS, H7 VSS, H8 VSS, H9 VSS, J4 VDD, J6 VSS, J7 VSS, J8 VSS, J9 VSS, J11 VDD, K3 VDD1A18, K4 VDDA2, K11 VDD, L4 VSS1AGND, L5 VDDAIO, L6 VDD2A18, L8 VDD, L10 VDDIO, N1 VSSAIO, N14 VDDIO, P1 VSSA2, P2 VSS2AGND, P13 VSS, P14 VSS
part A text: ePWM; ADC; eQEP; XMEM; JTAG
part B text: A. POWER SUPPLY

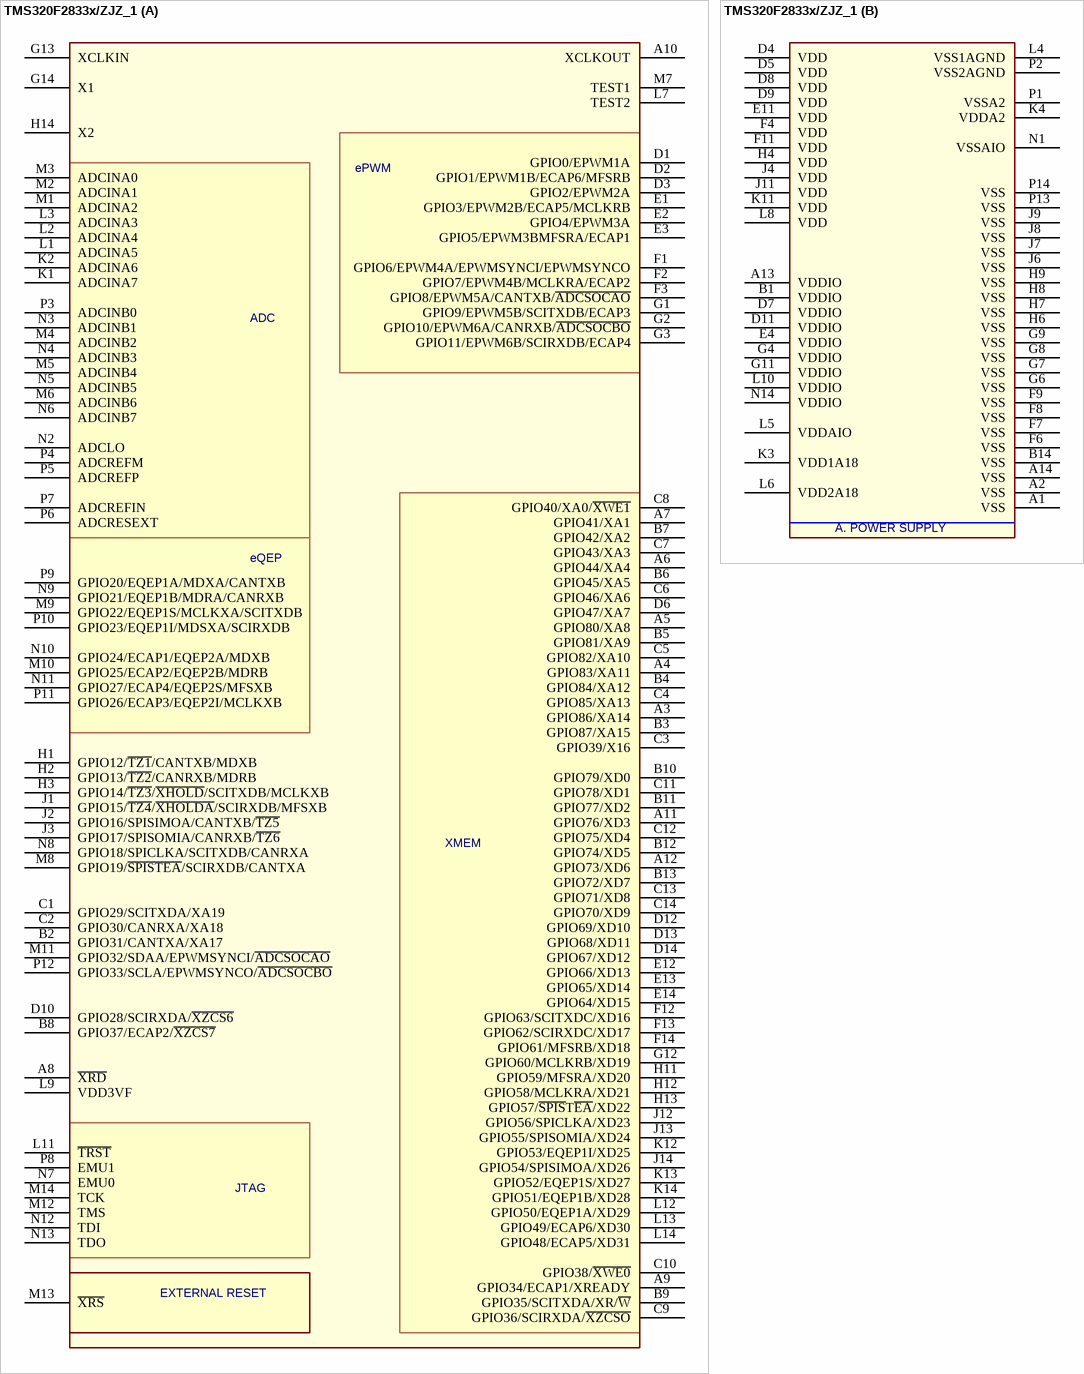
[diagram p6: symbol TMS320F2833x/ZJZ_1]

## TMS320F2833x/ZJZ_1
designator IC?
part A pins: A3 GPIO86/XA14, A4 GPIO83/XA11, A5 GPIO80/XA8, A6 GPIO44/XA4, A7 GPIO41/XA1, A8 ~{XRD}, A9 GPIO34/ECAP1/XREADY, A10 XCLKOUT, A11 GPIO76/XD3, A12 GPIO73/XD6, B2 GPIO31/CANTXA/XA17, B3 GPIO87/XA15, B4 GPIO84/XA12, B5 GPIO81/XA9, B6 GPIO45/XA5, B7 GPIO42/XA2, B8 GPIO37/ECAP2/~{XZCS7}, B9 GPIO35/SCITXDA/XR/~{W}, B10 GPIO79/XD0, B11 GPIO77/XD2, B12 GPIO74/XD5, B13 GPIO72/XD7, C1 GPIO29/SCITXDA/XA19, C2 GPIO30/CANRXA/XA18, C3 GPIO39/X16, C4 GPIO85/XA13, C5 GPIO82/XA10, C6 GPIO46/XA6, C7 GPIO43/XA3, C8 GPIO40/XA0/~{XWE1}, C9 GPIO36/SCIRXDA/~{XZCSO}, C10 GPIO38/~{XWE0}, C11 GPIO78/XD1, C12 GPIO75/XD4, C13 GPIO71/XD8, C14 GPIO70/XD9, D1 GPIO0/EPWM1A, D2 GPIO1/EPWM1B/ECAP6/MFSRB, D3 GPIO2/EPWM2A, D6 GPIO47/XA7, D10 GPIO28/SCIRXDA/~{XZCS6}, D12 GPIO69/XD10, D13 GPIO68/XD11, D14 GPIO67/XD12, E1 GPIO3/EPWM2B/ECAP5/MCLKRB, E2 GPIO4/EPWM3A, E3 GPIO5/EPWM3BMFSRA/ECAP1, E12 GPIO66/XD13, E13 GPIO65/XD14, E14 GPIO64/XD15, F1 GPIO6/EPWM4A/EPWMSYNCI/EPWMSYNCO, F2 GPIO7/EPWM4B/MCLKRA/ECAP2, F3 GPIO8/EPWM5A/CANTXB/~{ADCSOCAO}, F12 GPIO63/SCITXDC/XD16, F13 GPIO62/SCIRXDC/XD17, F14 GPIO61/MFSRB/XD18, G1 GPIO9/EPWM5B/SCITXDB/ECAP3, G2 GPIO10/EPWM6A/CANRXB/~{ADCSOCBO}, G3 GPIO11/EPWM6B/SCIRXDB/ECAP4, G12 GPIO60/MCLKRB/XD19, G13 XCLKIN, G14 X1, H1 GPIO12/~{TZ1}/CANTXB/MDXB, H2 GPIO13/~{TZ2}/CANRXB/MDRB, H3 GPIO14/~{TZ3}/~{XHOLD}/SCITXDB/MCLKXB, H11 GPIO59/MFSRA/XD20, H12 GPIO58/MCLKRA/XD21, H13 GPIO57/~{SPIS}T~{EA}/XD22, H14 X2, J1 GPIO15/~{TZ4}/~{XHOLDA}/SCIRXDB/MFSXB, J2 GPIO16/SPISIMOA/CANTXB/~{TZ5}, J3 GPIO17/SPISOMIA/CANRXB/~{TZ6}, J12 GPIO56/SPICLKA/XD23, J13 GPIO55/SPISOMIA/XD24, J14 GPIO54/SPISIMOA/XD26, K1 ADCINA7, K2 ADCINA6, K12 GPIO53/EQEP1I/XD25, K13 GPIO52/EQEP1S/XD27, K14 GPIO51/EQEP1B/XD28, L1 ADCINA5, L2 ADCINA4, L3 ADCINA3, L7 TEST2, L9 VDD3VF, L11 ~{TRST}, L12 GPIO50/EQEP1A/XD29, L13 GPIO49/ECAP6/XD30, L14 GPIO48/ECAP5/XD31, M1 ADCINA2, M2 ADCINA1, M3 ADCINA0, M4 ADCINB2, M5 ADCINB4, M6 ADCINB6, M7 TEST1, M8 GPIO19/~{SPISTEA}/SCIRXDB/CANTXA, M9 GPIO22/EQEP1S/MCLKXA/SCITXDB, M10 GPIO25/ECAP2/EQEP2B/MDRB, M11 GPIO32/SDAA/EPWMSYNCI/~{ADCSOCAO}, M12 TMS, M13 ~{XRS}, M14 TCK, N2 ADCLO, N3 ADCINB1, N4 ADCINB3, N5 ADCINB5, N6 ADCINB7, N7 EMU0, N8 GPIO18/SPICLKA/SCITXDB/CANRXA, N9 GPIO21/EQEP1B/MDRA/CANRXB, N10 GPIO24/ECAP1/EQEP2A/MDXB, N11 GPIO27/ECAP4/EQEP2S/MFSXB, N12 TDI, N13 TDO, P3 ADCINB0, P4 ADCREFM, P5 ADCREFP, P6 ADCRESEXT, P7 ADCREFIN, P8 EMU1, P9 GPIO20/EQEP1A/MDXA/CANTXB, P10 GPIO23/EQEP1I/MDSXA/SCIRXDB, P11 GPIO26/ECAP3/EQEP2I/MCLKXB, P12 GPIO33/SCLA/EPWMSYNCO/~{ADCSOCBO}
part B pins: A1 VSS, A2 VSS, A13 VDDIO, A14 VSS, B1 VDDIO, B14 VSS, D4 VDD, D5 VDD, D7 VDDIO, D8 VDD, D9 VDD, D11 VDDIO, E4 VDDIO, E11 VDD, F4 VDD, F6 VSS, F7 VSS, F8 VSS, F9 VSS, F11 VDD, G4 VDDIO, G6 VSS, G7 VSS, G8 VSS, G9 VSS, G11 VDDIO, H4 VDD, H6 VSS, H7 VSS, H8 VSS, H9 VSS, J4 VDD, J6 VSS, J7 VSS, J8 VSS, J9 VSS, J11 VDD, K3 VDD1A18, K4 VDDA2, K11 VDD, L4 VSS1AGND, L5 VDDAIO, L6 VDD2A18, L8 VDD, L10 VDDIO, N1 VSSAIO, N14 VDDIO, P1 VSSA2, P2 VSS2AGND, P13 VSS, P14 VSS
part A text: ePWM; ADC; eQEP; XMEM; JTAG; EXTERNAL RESET
part B text: A. POWER SUPPLY

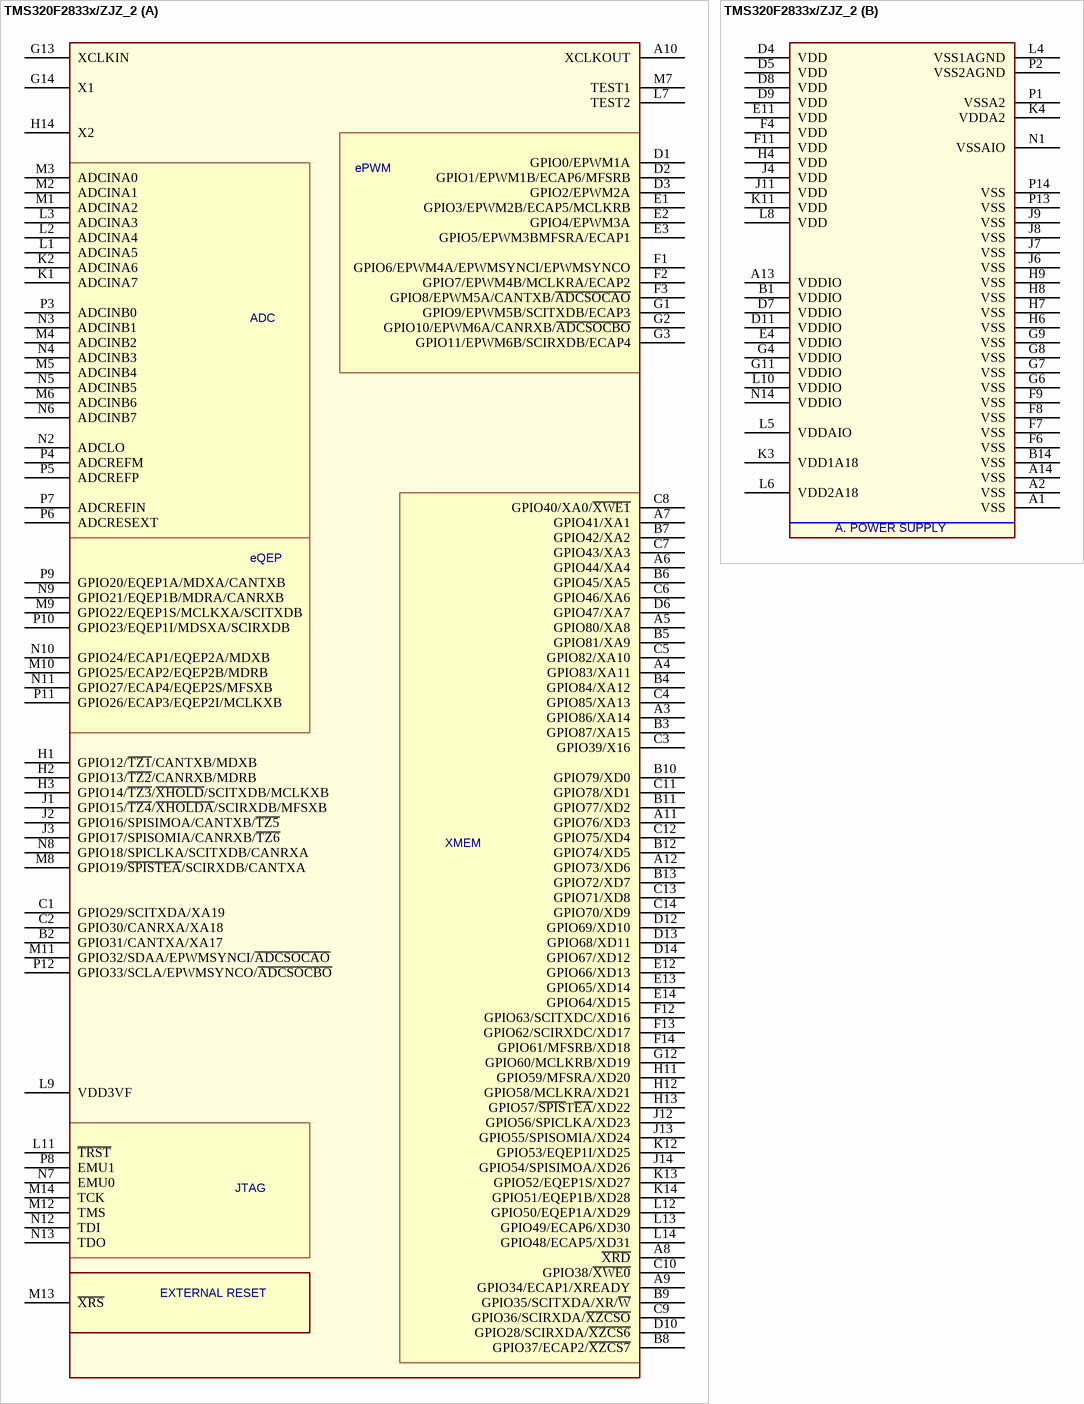
[diagram p7: symbol TMS320F2833x/ZJZ_2]

## TMS320F2833x/ZJZ_2
designator IC?
part A pins: A3 GPIO86/XA14, A4 GPIO83/XA11, A5 GPIO80/XA8, A6 GPIO44/XA4, A7 GPIO41/XA1, A8 ~{XRD}, A9 GPIO34/ECAP1/XREADY, A10 XCLKOUT, A11 GPIO76/XD3, A12 GPIO73/XD6, B2 GPIO31/CANTXA/XA17, B3 GPIO87/XA15, B4 GPIO84/XA12, B5 GPIO81/XA9, B6 GPIO45/XA5, B7 GPIO42/XA2, B8 GPIO37/ECAP2/~{XZCS7}, B9 GPIO35/SCITXDA/XR/~{W}, B10 GPIO79/XD0, B11 GPIO77/XD2, B12 GPIO74/XD5, B13 GPIO72/XD7, C1 GPIO29/SCITXDA/XA19, C2 GPIO30/CANRXA/XA18, C3 GPIO39/X16, C4 GPIO85/XA13, C5 GPIO82/XA10, C6 GPIO46/XA6, C7 GPIO43/XA3, C8 GPIO40/XA0/~{XWE1}, C9 GPIO36/SCIRXDA/~{XZCSO}, C10 GPIO38/~{XWE0}, C11 GPIO78/XD1, C12 GPIO75/XD4, C13 GPIO71/XD8, C14 GPIO70/XD9, D1 GPIO0/EPWM1A, D2 GPIO1/EPWM1B/ECAP6/MFSRB, D3 GPIO2/EPWM2A, D6 GPIO47/XA7, D10 GPIO28/SCIRXDA/~{XZCS6}, D12 GPIO69/XD10, D13 GPIO68/XD11, D14 GPIO67/XD12, E1 GPIO3/EPWM2B/ECAP5/MCLKRB, E2 GPIO4/EPWM3A, E3 GPIO5/EPWM3BMFSRA/ECAP1, E12 GPIO66/XD13, E13 GPIO65/XD14, E14 GPIO64/XD15, F1 GPIO6/EPWM4A/EPWMSYNCI/EPWMSYNCO, F2 GPIO7/EPWM4B/MCLKRA/ECAP2, F3 GPIO8/EPWM5A/CANTXB/~{ADCSOCAO}, F12 GPIO63/SCITXDC/XD16, F13 GPIO62/SCIRXDC/XD17, F14 GPIO61/MFSRB/XD18, G1 GPIO9/EPWM5B/SCITXDB/ECAP3, G2 GPIO10/EPWM6A/CANRXB/~{ADCSOCBO}, G3 GPIO11/EPWM6B/SCIRXDB/ECAP4, G12 GPIO60/MCLKRB/XD19, G13 XCLKIN, G14 X1, H1 GPIO12/~{TZ1}/CANTXB/MDXB, H2 GPIO13/~{TZ2}/CANRXB/MDRB, H3 GPIO14/~{TZ3}/~{XHOLD}/SCITXDB/MCLKXB, H11 GPIO59/MFSRA/XD20, H12 GPIO58/MCLKRA/XD21, H13 GPIO57/~{SPIS}T~{EA}/XD22, H14 X2, J1 GPIO15/~{TZ4}/~{XHOLDA}/SCIRXDB/MFSXB, J2 GPIO16/SPISIMOA/CANTXB/~{TZ5}, J3 GPIO17/SPISOMIA/CANRXB/~{TZ6}, J12 GPIO56/SPICLKA/XD23, J13 GPIO55/SPISOMIA/XD24, J14 GPIO54/SPISIMOA/XD26, K1 ADCINA7, K2 ADCINA6, K12 GPIO53/EQEP1I/XD25, K13 GPIO52/EQEP1S/XD27, K14 GPIO51/EQEP1B/XD28, L1 ADCINA5, L2 ADCINA4, L3 ADCINA3, L7 TEST2, L9 VDD3VF, L11 ~{TRST}, L12 GPIO50/EQEP1A/XD29, L13 GPIO49/ECAP6/XD30, L14 GPIO48/ECAP5/XD31, M1 ADCINA2, M2 ADCINA1, M3 ADCINA0, M4 ADCINB2, M5 ADCINB4, M6 ADCINB6, M7 TEST1, M8 GPIO19/~{SPISTEA}/SCIRXDB/CANTXA, M9 GPIO22/EQEP1S/MCLKXA/SCITXDB, M10 GPIO25/ECAP2/EQEP2B/MDRB, M11 GPIO32/SDAA/EPWMSYNCI/~{ADCSOCAO}, M12 TMS, M13 ~{XRS}, M14 TCK, N2 ADCLO, N3 ADCINB1, N4 ADCINB3, N5 ADCINB5, N6 ADCINB7, N7 EMU0, N8 GPIO18/SPICLKA/SCITXDB/CANRXA, N9 GPIO21/EQEP1B/MDRA/CANRXB, N10 GPIO24/ECAP1/EQEP2A/MDXB, N11 GPIO27/ECAP4/EQEP2S/MFSXB, N12 TDI, N13 TDO, P3 ADCINB0, P4 ADCREFM, P5 ADCREFP, P6 ADCRESEXT, P7 ADCREFIN, P8 EMU1, P9 GPIO20/EQEP1A/MDXA/CANTXB, P10 GPIO23/EQEP1I/MDSXA/SCIRXDB, P11 GPIO26/ECAP3/EQEP2I/MCLKXB, P12 GPIO33/SCLA/EPWMSYNCO/~{ADCSOCBO}
part B pins: A1 VSS, A2 VSS, A13 VDDIO, A14 VSS, B1 VDDIO, B14 VSS, D4 VDD, D5 VDD, D7 VDDIO, D8 VDD, D9 VDD, D11 VDDIO, E4 VDDIO, E11 VDD, F4 VDD, F6 VSS, F7 VSS, F8 VSS, F9 VSS, F11 VDD, G4 VDDIO, G6 VSS, G7 VSS, G8 VSS, G9 VSS, G11 VDDIO, H4 VDD, H6 VSS, H7 VSS, H8 VSS, H9 VSS, J4 VDD, J6 VSS, J7 VSS, J8 VSS, J9 VSS, J11 VDD, K3 VDD1A18, K4 VDDA2, K11 VDD, L4 VSS1AGND, L5 VDDAIO, L6 VDD2A18, L8 VDD, L10 VDDIO, N1 VSSAIO, N14 VDDIO, P1 VSSA2, P2 VSS2AGND, P13 VSS, P14 VSS
part A text: ePWM; ADC; eQEP; XMEM; JTAG; EXTERNAL RESET
part B text: A. POWER SUPPLY

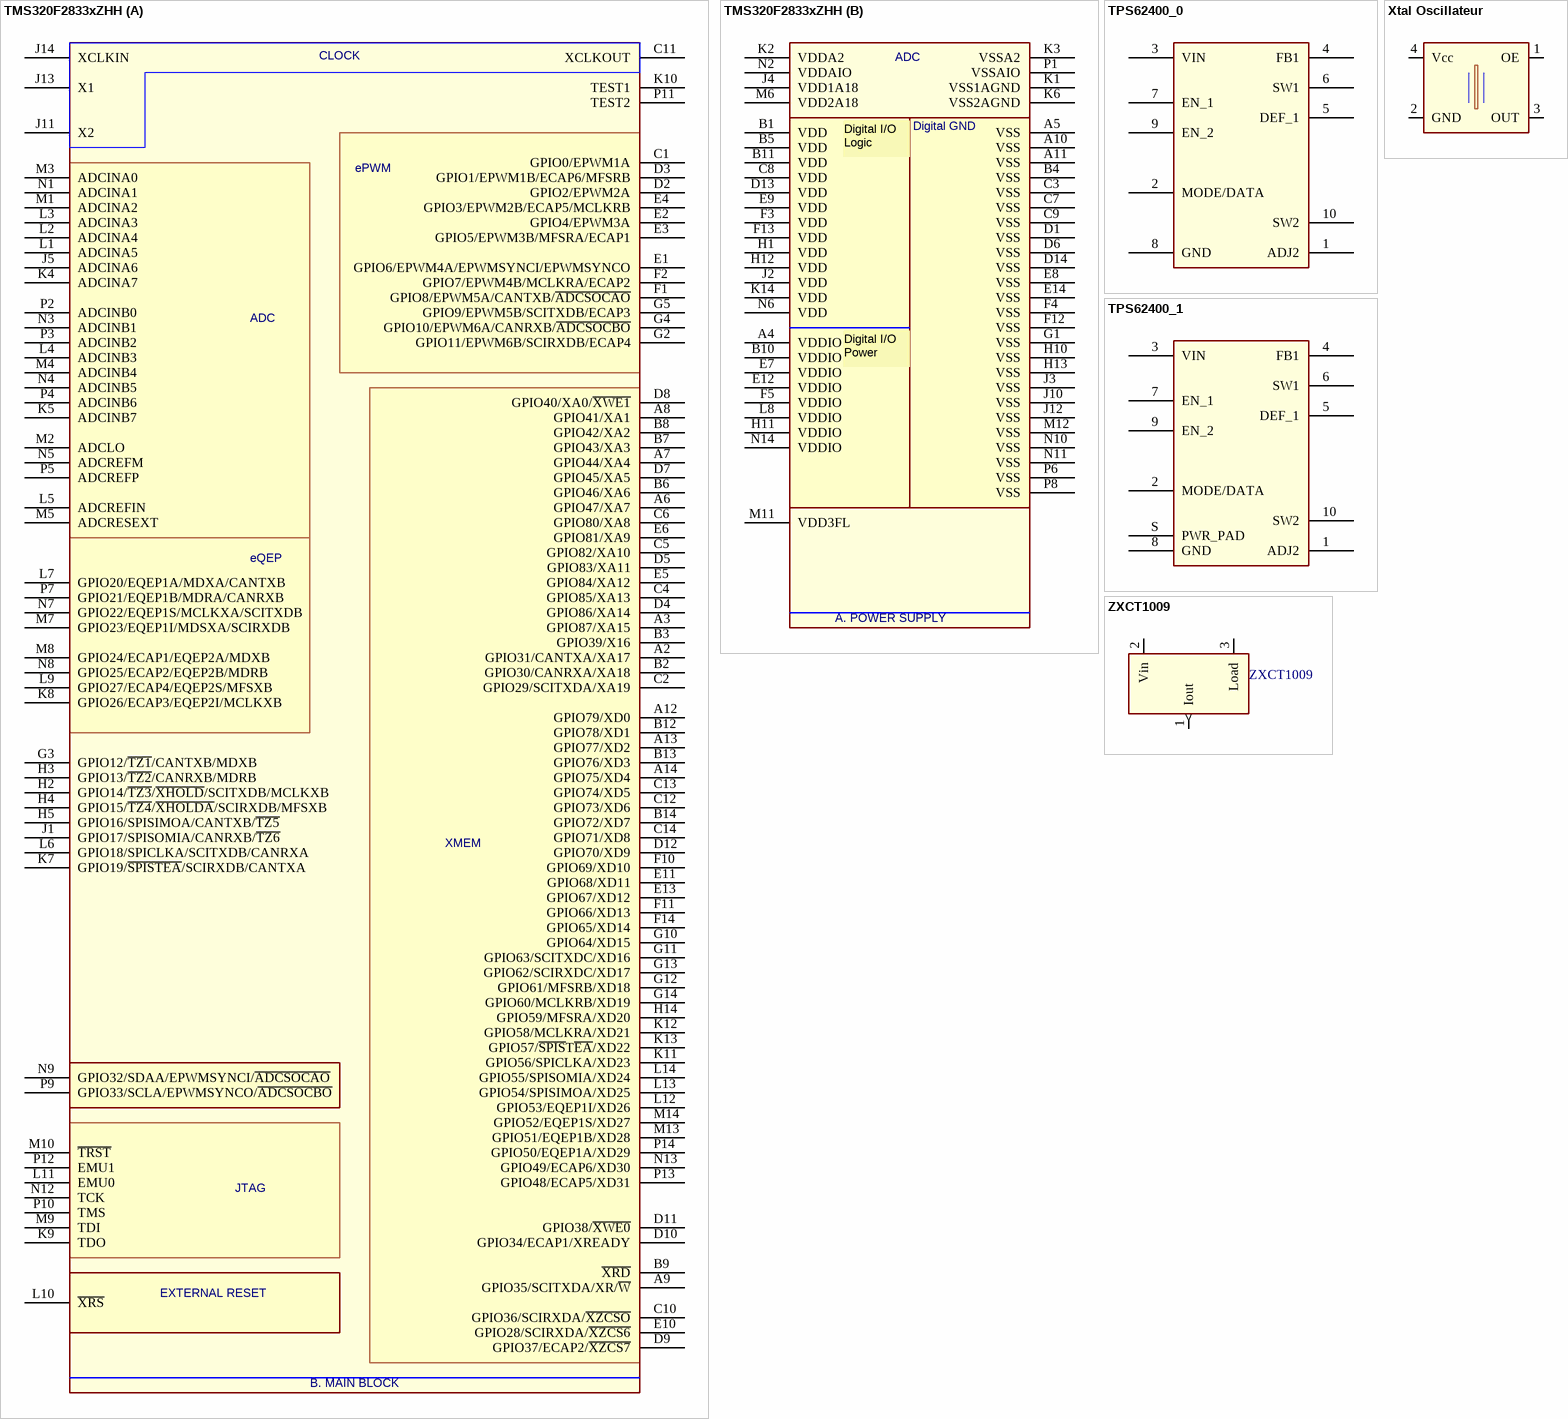
[diagram p8: symbols TMS320F2833xZHH to ZXCT1009]

## TMS320F2833xZHH
designator IC?
part A pins: A2 GPIO31/CANTXA/XA17, A3 GPIO87/XA15, A6 GPIO47/XA7, A7 GPIO44/XA4, A8 GPIO41/XA1, A9 GPIO35/SCITXDA/XR/~{W}, A12 GPIO79/XD0, A13 GPIO77/XD2, A14 GPIO75/XD4, B2 GPIO30/CANRXA/XA18, B3 GPIO39/X16, B6 GPIO46/XA6, B7 GPIO43/XA3, B8 GPIO42/XA2, B9 ~{XRD}, B12 GPIO78/XD1, B13 GPIO76/XD3, B14 GPIO72/XD7, C1 GPIO0/EPWM1A, C2 GPIO29/SCITXDA/XA19, C4 GPIO85/XA13, C5 GPIO82/XA10, C6 GPIO80/XA8, C10 GPIO36/SCIRXDA/~{XZCSO}, C11 XCLKOUT, C12 GPIO73/XD6, C13 GPIO74/XD5, C14 GPIO71/XD8, D2 GPIO2/EPWM2A, D3 GPIO1/EPWM1B/ECAP6/MFSRB, D4 GPIO86/XA14, D5 GPIO83/XA11, D7 GPIO45/XA5, D8 GPIO40/XA0/~{XWE1}, D9 GPIO37/ECAP2/~{XZCS7}, D10 GPIO34/ECAP1/XREADY, D11 GPIO38/~{XWE0}, D12 GPIO70/XD9, E1 GPIO6/EPWM4A/EPWMSYNCI/EPWMSYNCO, E2 GPIO4/EPWM3A, E3 GPIO5/EPWM3B/MFSRA/ECAP1, E4 GPIO3/EPWM2B/ECAP5/MCLKRB, E5 GPIO84/XA12, E6 GPIO81/XA9, E10 GPIO28/SCIRXDA/~{XZCS6}, E11 GPIO68/XD11, E13 GPIO67/XD12, F1 GPIO8/EPWM5A/CANTXB/~{ADCSOCAO}, F2 GPIO7/EPWM4B/MCLKRA/ECAP2, F10 GPIO69/XD10, F11 GPIO66/XD13, F14 GPIO65/XD14, G2 GPIO11/EPWM6B/SCIRXDB/ECAP4, G3 GPIO12/~{TZ1}/CANTXB/MDXB, G4 GPIO10/EPWM6A/CANRXB/~{ADCSOCBO}, G5 GPIO9/EPWM5B/SCITXDB/ECAP3, G10 GPIO64/XD15, G11 GPIO63/SCITXDC/XD16, G12 GPIO61/MFSRB/XD18, G13 GPIO62/SCIRXDC/XD17, G14 GPIO60/MCLKRB/XD19, H2 GPIO14/~{TZ3}/~{XHOLD}/SCITXDB/MCLKXB, H3 GPIO13/~{TZ2}/CANRXB/MDRB, H4 GPIO15/~{TZ4}/~{XHOLDA}/SCIRXDB/MFSXB, H5 GPIO16/SPISIMOA/CANTXB/~{TZ5}, H14 GPIO59/MFSRA/XD20, J1 GPIO17/SPISOMIA/CANRXB/~{TZ6}, J5 ADCINA6, J11 X2, J13 X1, J14 XCLKIN, K4 ADCINA7, K5 ADCINB7, K7 GPIO19/~{SPISTEA}/SCIRXDB/CANTXA, K8 GPIO26/ECAP3/EQEP2I/MCLKXB, K9 TDO, K10 TEST1, K11 GPIO56/SPICLKA/XD23, K12 GPIO58/MCLKRA/XD21, K13 GPIO57/~{SPIS}T~{EA}/XD22, L1 ADCINA5, L2 ADCINA4, L3 ADCINA3, L4 ADCINB3, L5 ADCREFIN, L6 GPIO18/SPICLKA/SCITXDB/CANRXA, L7 GPIO20/EQEP1A/MDXA/CANTXB, L9 GPIO27/ECAP4/EQEP2S/MFSXB, L10 ~{XRS}, L11 EMU0, L12 GPIO53/EQEP1I/XD26, L13 GPIO54/SPISIMOA/XD25, L14 GPIO55/SPISOMIA/XD24, M1 ADCINA2, M2 ADCLO, M3 ADCINA0, M4 ADCINB4, M5 ADCRESEXT, M7 GPIO23/EQEP1I/MDSXA/SCIRXDB, M8 GPIO24/ECAP1/EQEP2A/MDXB, M9 TDI, M10 ~{TRST}, M13 GPIO51/EQEP1B/XD28, M14 GPIO52/EQEP1S/XD27, N1 ADCINA1, N3 ADCINB1, N4 ADCINB5, N5 ADCREFM, N7 GPIO22/EQEP1S/MCLKXA/SCITXDB, N8 GPIO25/ECAP2/EQEP2B/MDRB, N9 GPIO32/SDAA/EPWMSYNCI/~{ADCSOCAO}, N12 TCK, N13 GPIO49/ECAP6/XD30, P2 ADCINB0, P3 ADCINB2, P4 ADCINB6, P5 ADCREFP, P7 GPIO21/EQEP1B/MDRA/CANRXB, P9 GPIO33/SCLA/EPWMSYNCO/~{ADCSOCBO}, P10 TMS, P11 TEST2, P12 EMU1, P13 GPIO48/ECAP5/XD31, P14 GPIO50/EQEP1A/XD29
part B pins: A4 VDDIO, A5 VSS, A10 VSS, A11 VSS, B1 VDD, B4 VSS, B5 VDD, B10 VDDIO, B11 VDD, C3 VSS, C7 VSS, C8 VDD, C9 VSS, D1 VSS, D6 VSS, D13 VDD, D14 VSS, E7 VDDIO, E8 VSS, E9 VDD, E12 VDDIO, E14 VSS, F3 VDD, F4 VSS, F5 VDDIO, F12 VSS, F13 VDD, G1 VSS, H1 VDD, H10 VSS, H11 VDDIO, H12 VDD, H13 VSS, J2 VDD, J3 VSS, J4 VDD1A18, J10 VSS, J12 VSS, K1 VSS1AGND, K2 VDDA2, K3 VSSA2, K6 VSS2AGND, K14 VDD, L8 VDDIO, M6 VDD2A18, M11 VDD3FL, M12 VSS, N2 VDDAIO, N6 VDD, N10 VSS, N11 VSS, N14 VDDIO, P1 VSSAIO, P6 VSS, P8 VSS
part A text: CLOCK; ePWM; ADC; eQEP; XMEM; JTAG; EXTERNAL RESET; B. MAIN BLOCK
part B text: ADC; Digital I/O / Logic; Digital GND; Digital I/O / Power; A. POWER SUPPLY

## TPS62400_0
designator IC?
pins: 1 ADJ2, 2 MODE/DATA, 3 VIN, 4 FB1, 5 DEF_1, 6 SW1, 7 EN_1, 8 GND, 9 EN_2, 10 SW2

## TPS62400_1
designator IC?
pins: 1 ADJ2, 2 MODE/DATA, 3 VIN, 4 FB1, 5 DEF_1, 6 SW1, 7 EN_1, 8 GND, 9 EN_2, 10 SW2, S PWR_PAD

## Xtal Oscillateur
designator IC?
pins: 1 OE, 2 GND, 3 OUT, 4 Vcc

## ZXCT1009
designator U?
pins: 1 Iout (out), 2 Vin (power), 3 Load (power)